# Altium schematic symbol library SYM-IC.SchLib: 136 symbols (part 4 of 7)
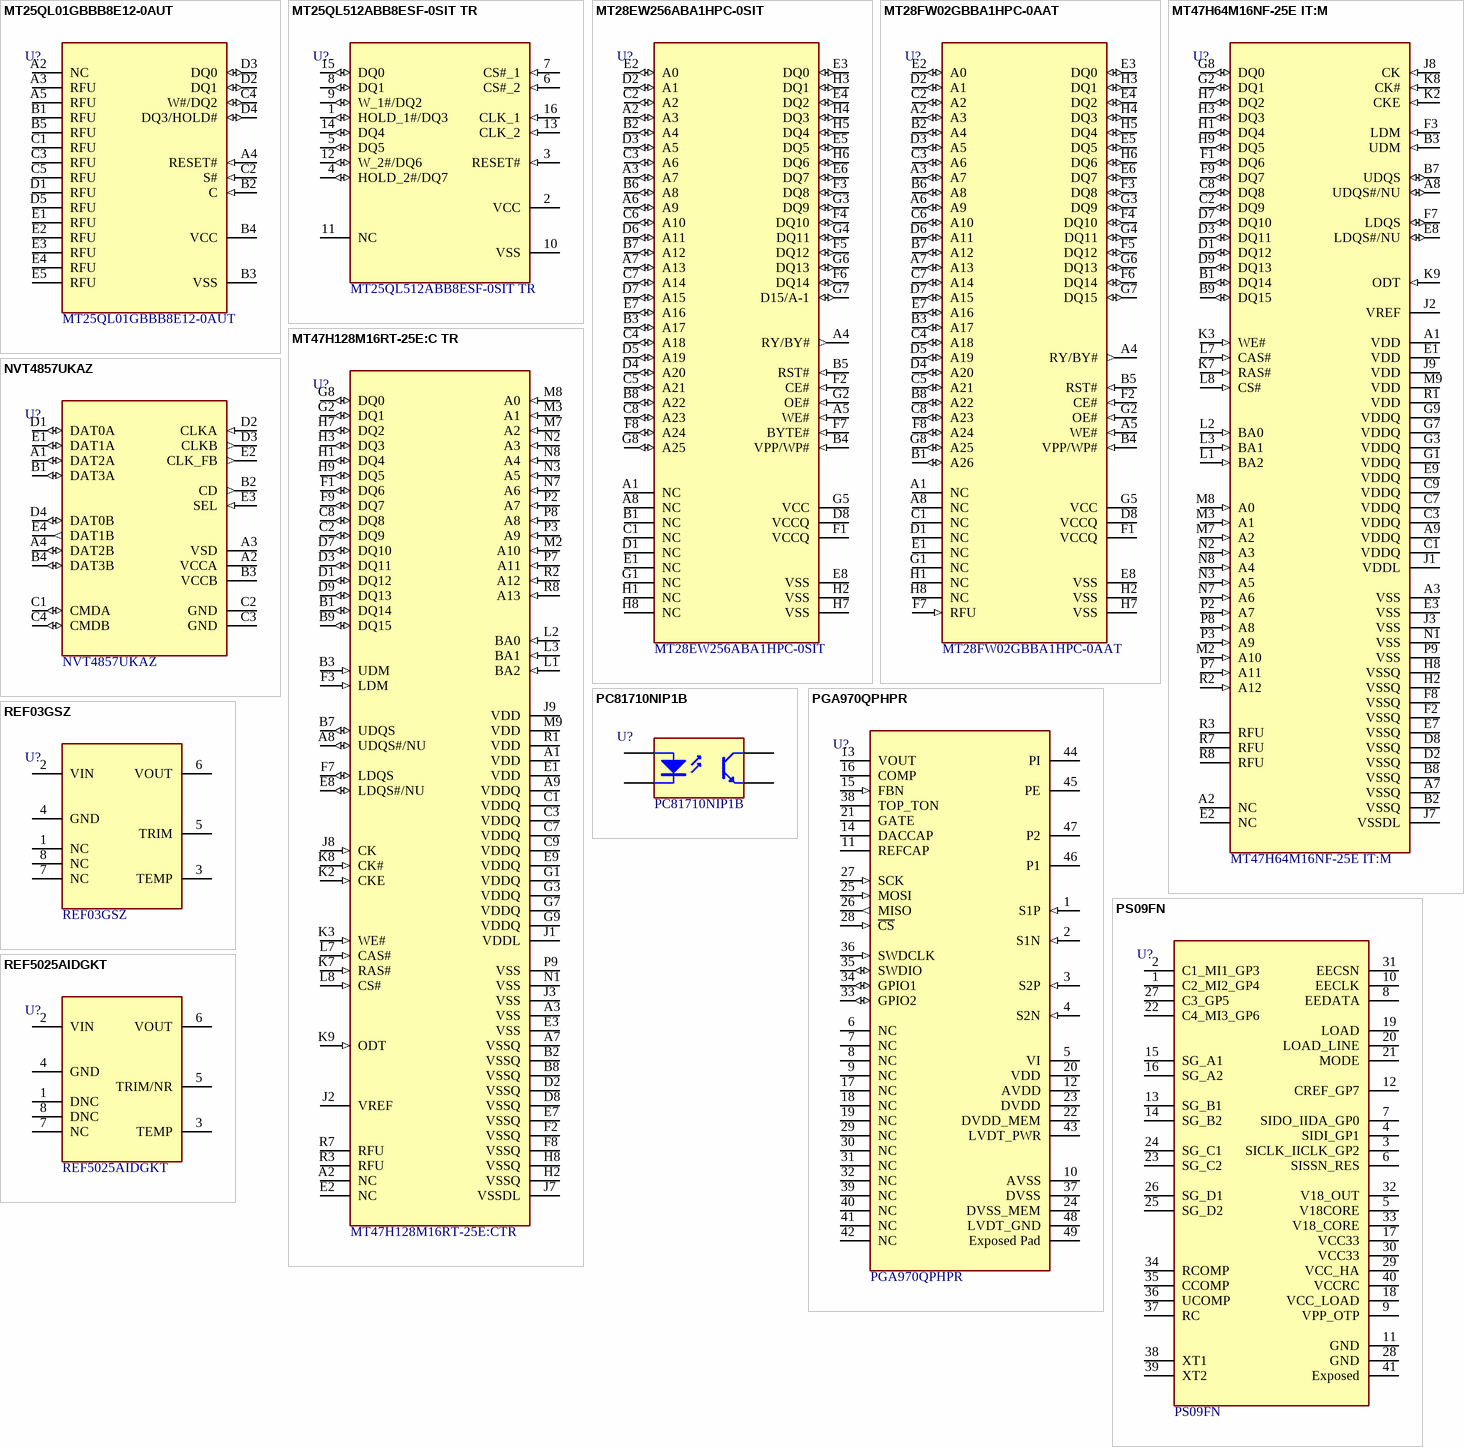
[diagram p20: symbols MT25QL01GBBB8E12-0AUT to REF5025AIDGKT]

## MT28FW02GBBA1HPC-0AAT
designator U?, comment Manufacturer Part Number: MT28FW02GBBA1HPC-0AAT  (hidden comment: IC FLASH 2GBIT PARALLEL 64LBGA)
NOR Flash Parallel 3V/3.3V 2G-bit 128M x 16 110ns Automotive 64-Pin LBGA T/R/Tray; Manufacturer: Micron Technology; Supplier 1: Digi-Key; RoHS: Yes; Category: Flash; RoHS Compliant: Yes; ComponentLink1URL: https://www.micron.com/~/media/documents/products/data-sheet/nor-flash/parallel/mt28ew_mt28fw/mt28fw_2gb_automotive.pdf?src-supplier=Digi-Key; ComponentLink1Description: https://www.micron.com/~/media/documents/products/data-sheet/nor-flash/parallel/mt28ew_mt28fw/mt28fw_2gb_automotive.pdf?src-supplier=Digi-Key; Supplier Part Number 1: 557-2026-ND
footprint BGA64C100P8X8_1100X1300X140 (BGA, 64-Leads, Body 11/00x13/00mmx1/40mm, Pitch 1/00mm)
pins: A1 NC, A2 A3 (io), A3 A7 (io), A4 RY/BY# (out), A5 WE# (in), A6 A9 (io), A7 A13 (io), A8 NC, B1 A26 (io), B2 A4 (io), B3 A17 (io), B4 VPP/WP# (in), B5 RST# (in), B6 A8 (io), B7 A12 (io), B8 A22 (io), C1 NC, C2 A2 (io), C3 A6 (io), C4 A18 (io), C5 A21 (io), C6 A10 (io), C7 A14 (io), C8 A23 (io), D1 NC, D2 A1 (io), D3 A5 (io), D4 A20 (io), D5 A19 (io), D6 A11 (io), D7 A15 (io), D8 VCCQ (power), E1 NC, E2 A0 (io), E3 DQ0 (io), E4 DQ2 (io), E5 DQ5 (io), E6 DQ7 (io), E7 A16 (io), E8 VSS (power), F1 VCCQ (power), F2 CE# (in), F3 DQ8 (io), F4 DQ10 (io), F5 DQ12 (io), F6 DQ14 (io), F7 RFU (in), F8 A24 (io), G1 NC, G2 OE# (in), G3 DQ9 (io), G4 DQ11 (io), G5 VCC (power), G6 DQ13 (io), G7 DQ15 (io), G8 A25 (io), H1 NC, H2 VSS (power), H3 DQ1 (io), H4 DQ3 (io), H5 DQ4 (io), H6 DQ6 (io), H7 VSS (power), H8 NC

## MT47H64M16NF-25E IT:M
designator U?, comment Manufacturer Part Number: MT47H64M16NF-25E IT:M  (hidden comment: IC DRAM 1GBIT PARALLEL 84FBGA)
SDRAM - DDR2 Memory IC 1Gb (64M x 16) Parallel 400 MHz 400 ps 84-FBGA (8x12.5); Supplier 1: Digi-Key; Supplier Part Number 1: MT47H64M16NF-25EIT:M-ND
footprint BGA135C80P9X15_800X1250X120 (BGA, 135-Leads, Body 8/00x12/50mmx1/20mm, Pitch 0/80mm)
pins: A1 VDD (power), A2 NC, A3 VSS (power), A7 VSSQ (power), A8 UDQS#/NU (io), A9 VDDQ (power), B1 DQ14 (io), B2 VSSQ (power), B3 UDM (in), B7 UDQS (io), B8 VSSQ (power), B9 DQ15 (io), C1 VDDQ (power), C2 DQ9 (io), C3 VDDQ (power), C7 VDDQ (power), C8 DQ8 (io), C9 VDDQ (power), D1 DQ12 (io), D2 VSSQ (power), D3 DQ11 (io), D7 DQ10 (io), D8 VSSQ (power), D9 DQ13 (io), E1 VDD (power), E2 NC, E3 VSS (power), E7 VSSQ (power), E8 LDQS#/NU (io), E9 VDDQ (power), F1 DQ6 (io), F2 VSSQ (power), F3 LDM (in), F7 LDQS (io), F8 VSSQ (power), F9 DQ7 (io), G1 VDDQ (power), G2 DQ1 (io), G3 VDDQ (power), G7 VDDQ (power), G8 DQ0 (io), G9 VDDQ (power), H1 DQ4 (io), H2 VSSQ (power), H3 DQ3 (io), H7 DQ2 (io), H8 VSSQ (power), H9 DQ5 (io), J1 VDDL (power), J2 VREF (power), J3 VSS (power), J7 VSSDL (power), J8 CK (in), J9 VDD (power), K2 CKE (in), K3 WE# (in), K7 RAS# (in), K8 CK# (in), K9 ODT (in), L1 BA2 (in), L2 BA0 (in), L3 BA1 (in), L7 CAS# (in), L8 CS# (in), M2 A10 (in), M3 A1 (in), M7 A2 (in), M8 A0 (in), M9 VDD (power), N1 VSS (power), N2 A3 (in), N3 A5 (in), N7 A6 (in), N8 A4 (in), P2 A7 (in), P3 A9 (in), P7 A11 (in), P8 A8 (in), P9 VSS (power), R1 VDD (power), R2 A12 (in), R3 RFU, R7 RFU, R8 RFU

## MT47H128M16RT-25E:C TR
designator U?, comment Manufacturer Part Number: MT47H128M16RT-25E:CTR  (hidden comment: IC DRAM 2GBIT PARALLEL 84FBGA)
U69A 128MX16 DDR2 SDRAM; Manufacturer: Micron Technology; Memory Type: RAM,DDR2 SDRAM; Supplier 1: Digi-Key; RoHS: Yes; Category: RAM; Case/Package: TFBGA; Min Operating Temperature: 0°C; Max Operating Temperature: 85°C; Package Quantity: 1000; Packaging: Tape and Reel; Interface: Parallel; RoHS Compliant: Yes; ComponentLink1URL: https://datasheet.ciiva.com/29613/2gb-ddr2-29613115.pdf?src-supplier=Digi-Key; ComponentLink1Description: https://datasheet.ciiva.com/29613/2gb-ddr2-29613115.pdf?src-supplier=Digi-Key; Supplier Part Number 1: 557-1919-1-ND
footprint BGA84C80P9X15_900X1250X120 (BGA, 84-Leads, Body 9/00x12/50mmx1/20mm, Pitch 0/80mm)
pins: A1 VDD (power), A2 NC, A3 VSS (power), A7 VSSQ (power), A8 UDQS#/NU (io), A9 VDDQ (power), B1 DQ14 (io), B2 VSSQ (power), B3 UDM (in), B7 UDQS (io), B8 VSSQ (power), B9 DQ15 (io), C1 VDDQ (power), C2 DQ9 (io), C3 VDDQ (power), C7 VDDQ (power), C8 DQ8 (io), C9 VDDQ (power), D1 DQ12 (io), D2 VSSQ (power), D3 DQ11 (io), D7 DQ10 (io), D8 VSSQ (power), D9 DQ13 (io), E1 VDD (power), E2 NC, E3 VSS (power), E7 VSSQ (power), E8 LDQS#/NU (io), E9 VDDQ (power), F1 DQ6 (io), F2 VSSQ (power), F3 LDM (in), F7 LDQS (io), F8 VSSQ (power), F9 DQ7 (io), G1 VDDQ (power), G2 DQ1 (io), G3 VDDQ (power), G7 VDDQ (power), G8 DQ0 (io), G9 VDDQ (power), H1 DQ4 (io), H2 VSSQ (power), H3 DQ3 (io), H7 DQ2 (io), H8 VSSQ (power), H9 DQ5 (io), J1 VDDL (power), J2 VREF (power), J3 VSS (power), J7 VSSDL (power), J8 CK (in), J9 VDD (power), K2 CKE (in), K3 WE# (in), K7 RAS# (in), K8 CK# (in), K9 ODT (in), L1 BA2 (in), L2 BA0 (in), L3 BA1 (in), L7 CAS# (in), L8 CS# (in), M2 A10 (in), M3 A1 (in), M7 A2 (in), M8 A0 (in), M9 VDD (power), N1 VSS (power), N2 A3 (in), N3 A5 (in), N7 A6 (in), N8 A4 (in), P2 A7 (in), P3 A9 (in), P7 A11 (in), P8 A8 (in), P9 VSS (power), R1 VDD (power), R2 A12 (in), R3 RFU, R7 RFU, R8 A13 (in)

## NVT4857UKAZ
designator U?, comment Manufacturer Part Number: NVT4857UKAZ  (hidden comment: IC INTFACE SPECIALIZED 20WLCSP)
Memory Card Interface 20-WLCSP (2.1x1.7); Supplier 1: Digi-Key; Supplier Part Number 1: 568-15389-1-ND
footprint BGA20C40P4X5_170X210X53 (BGA, 20-Leads, Body 1/70x2/10mmx0/53mm, Pitch 0/40mm)
pins: A1 DAT2A (io), A2 VCCA (power), A3 VSD (power), A4 DAT2B (io), B1 DAT3A (io), B2 CD (out), B3 VCCB (power), B4 DAT3B (io), C1 CMDA (io), C2 GND (power), C3 GND (power), C4 CMDB (io), D1 DAT0A (io), D2 CLKA (in), D3 CLKB (out), D4 DAT0B (io), E1 DAT1A (io), E2 CLK_FB (out), E3 SEL (in), E4 DAT1B (out)

## PC81710NIP1B
designator U?, comment Manufacturer Part Number: PC81710NIP1B  (hidden comment: OPTOISOLATOR 5KV TRANS 4SMD)
Optocoupler 1-CH Open Collector 5000Vrms 4-Pin DIP SMD T/R; Manufacturer: Socle Technology; Supplier 1: Digi-Key; RoHS: No; Category: Optocouplers; Stock 1: 11740; Pricing 1: 1=1/16000, 10=0/75900, 100=0/49710, 1000=0/39241 (USD); Supplier Part Number 1: 1855-1014-1-ND
footprint MSOP254P1000X355-4N (SOP, 4-Leads, Body 4/58x6/50mm, Pitch 2/54mm, IPC Medium Density)
pins: 1 A, 2 K, 3 E, 4 C

## PGA970QPHPR
designator U?, comment Manufacturer Part Number: PGA970QPHPR  (hidden comment: IC SGNL CONDITIONER LVDT 48HTQFP)
Sensor and Detector Interface 30V 12.5mA SPI/OWI Interface 48-Pin HTQFP EP T/R; Manufacturer: Texas Instruments; Interface: SPI; Sampling Rate: 7.8S/s; Supplier 1: Digi-Key; RoHS: Yes; Category: Integrated Circuits (ICs); Stock 1: 383; Pricing 1: 1=21/12000, 10=19/40600, 25=18/60200, 100=16/60050 (USD); Mount: Surface Mount; Number of Pins: 48; Min Operating Temperature: -40°C; Max Operating Temperature: 125°C; Packaging: Cut Tape; Operating Supply Current: 12.5mA; RoHS Compliant: Yes; ComponentLink1URL: http://www.ti.com/lit/ds/symlink/pga970.pdf?src-supplier=Digi-Key; ComponentLink1Description: http://www.ti.com/lit/ds/symlink/pga970.pdf?src-supplier=Digi-Key; ComponentLink2URL: http://www.ti.com/general/docs/suppproductinfo.tsp?distId=10&amp;gotoUrl=http%3A%2F%2Fwww.ti.com%2Flit%2Fgpn%2Fpga970&src-supplier=Digi-Key; ComponentLink2Description: http://www.ti.com/general/docs/suppproductinfo.tsp?distId=10&amp;gotoUrl=http%3A%2F%2Fwww.ti.com%2Flit%2Fgpn%2Fpga970&src-supplier=Digi-Key; ComponentLink3URL: http://www.ti.com/lit/ds/symlink/pga970.pdf?src-supplier=Farnell; ComponentLink3Description: http://www.ti.com/lit/ds/symlink/pga970.pdf?src-supplier=Farnell; Supplier Part Number 1: 296-45349-1-ND
footprint TSQFP50P900X900X120_HS-49N (TSQFP, 48-Leads, Body 7/00x7/00mm, Pitch 0/50mm, Thermal Pad 4/90x4/90mm, IPC Medium Density)
pins: 1 S1P (in), 2 S1N (in), 3 S2P (in), 4 S2N (in), 5 VI (power), 6 NC, 7 NC, 8 NC, 9 NC, 10 AVSS (power), 11 REFCAP (power), 12 AVDD (power), 13 VOUT (power), 14 DACCAP (power), 15 FBN (in), 16 COMP (power), 17 NC, 18 NC, 19 NC, 20 VDD (power), 21 GATE (power), 22 DVDD_MEM (power), 23 DVDD (power), 24 DVSS_MEM (power), 25 MOSI (in), 26 MISO (out), 27 SCK (in), 28 ~{CS} (in), 29 NC, 30 NC, 31 NC, 32 NC, 33 GPIO2 (io), 34 GPIO1 (io), 35 SWDIO (io), 36 SWDCLK (in), 37 DVSS (power), 38 TOP_TON (power), 39 NC, 40 NC, 41 NC, 42 NC, 43 LVDT_PWR (power), 44 PI (power), 45 PE (power), 46 P1 (power), 47 P2 (power), 48 LVDT_GND (power), 49 Exposed Pad (power)

## PS09FN
designator U?, comment Manufacturer Part Number: PS09FN  (hidden comment: IC RESISTIVE STRAIN GAUGE 40QFN)
Manufacturer: ams; Interface: I2C,SPI; Operating Supply Current: 2.5uA; Supplier 1: Digi-Key; RoHS: No; Category: Integrated Circuits (ICs); Mount: Surface Mount; Case/Package: QFN; Min Operating Temperature: -40°C; Max Operating Temperature: 125°C; Touchscreen: Resistive; Packaging: Tape and Reel; ComponentLink1URL: https://ams.com/documents/20143/36005/PS09_DS000320_1-00.zip?src-supplier=Digi-Key; ComponentLink1Description: https://ams.com/documents/20143/36005/PS09_DS000320_1-00.zip?src-supplier=Digi-Key; ComponentLink2URL: http://ams.com/eng/content/download/728824/1861406/381475?src-supplier=Digi-Key; ComponentLink2Description: http://ams.com/eng/content/download/728824/1861406/381475?src-supplier=Digi-Key; Supplier Part Number 1: PS09FNCT-ND
footprint QFN50P600X600X80_HS-41N (QFN, 40-Leads, Body 6/00x6/00mm, Pitch 0/50mm, Thermal Pad 4/42x4/42mm, IPC Medium Density)
pins: 1 C2_MI2_GP4, 2 C1_MI1_GP3, 3 SICLK_IICLK_GP2, 4 SIDI_GP1, 5 V18CORE (power), 6 SISSN_RES, 7 SIDO_IIDA_GP0, 8 EEDATA, 9 VPP_OTP (power), 10 EECLK, 11 GND (power), 12 CREF_GP7, 13 SG_B1, 14 SG_B2, 15 SG_A1, 16 SG_A2, 17 VCC33 (power), 18 VCC_LOAD (power), 19 LOAD, 20 LOAD_LINE, 21 MODE, 22 C4_MI3_GP6, 23 SG_C2, 24 SG_C1, 25 SG_D2, 26 SG_D1, 27 C3_GP5, 28 GND (power), 29 VCC_HA (power), 30 VCC33 (power), 31 EECSN, 32 V18_OUT (power), 33 V18_CORE (power), 34 RCOMP, 35 CCOMP, 36 UCOMP, 37 RC, 38 XT1, 39 XT2, 40 VCCRC (power), 41 Exposed (power)

## REF03GSZ
designator U?, comment Manufacturer Part Number: REF03GSZ  (hidden comment: IC VREF SERIES 0.6% 8SOIC)
Voltage Reference, Precision, Series - Fixed, Ref03 Series, 2.5V, Nsoic-8 Rohs Compliant: Yes; Manufacturer: Analog Devices; Nominal Supply Current: 1mA; Max Input Voltage: 40V; Max Output Current: 10mA; Min Input Voltage: 4.5V; Temperature Coefficient: 50ppm/°C; Operating Supply Current: 1.4mA; Current Rating: 21A; Supplier 1: Digi-Key; RoHS: Yes; Category: Voltage References; Pricing 1: 1=4/38000, 10=3/93600, 25=3/72080, 100=3/22450, 250=3/05916, 500=2/74498, 1000=2/57400 (USD); Case/Package: R; Number of Pins: 8; Min Operating Temperature: -40°C; Max Operating Temperature: 85°C; Output Voltage: 2.5V; Package Quantity: 98; Tolerance: 0.6%; Packaging: Rail/Tube; Min Output Voltage: 2.5V; Output Current: 10mA; Max Supply Current: 1.4mA; Max Output Voltage: 2.5V; Reference Voltage: 2.5V; Reference Type: Series; Output Type: Fixed; Series: -; Supply Current: 1mA; Length: 5mm; Width: 4mm; Height: 1.5mm; Radiation Hardening: No; REACH SVHC: No SVHC; Lead Free: Contains Lead; RoHS Compliant: Yes; ComponentLink1URL: https://datasheet.ciiva.com/8028/751513-8028137.pdf?src-supplier=Element14; ComponentLink1Description: https://datasheet.ciiva.com/8028/751513-8028137.pdf?src-supplier=Element14; ComponentLink2URL: https://datasheet.ciiva.com/3235/ref01-02-03-3235499.pdf?src-supplier=Avnet; ComponentLink2Description: https://datasheet.ciiva.com/3235/ref01-02-03-3235499.pdf?src-supplier=Avnet; ComponentLink3URL: https://datasheet.ciiva.com/15148/getdatasheetpartid-146490-15148827.pdf?src-supplier=Verical; ComponentLink3Description: https://datasheet.ciiva.com/15148/getdatasheetpartid-146490-15148827.pdf?src-supplier=Verical; ComponentLink4URL: https://datasheet.ciiva.com/24017/ref01-02-03-246255-24017599.pdf?src-supplier=Mouser; ComponentLink4Description: https://datasheet.ciiva.com/24017/ref01-02-03-246255-24017599.pdf?src-supplier=Mouser; Supplier Part Number 1: 505-REF03GSZ-ND
footprint SOIC127P600X175-8N (SOIC, 8-Leads, Body 4/89x3/90mm, Pitch 1/27mm, IPC Medium Density)
pins: 1 NC, 2 VIN (power), 3 TEMP, 4 GND (power), 5 TRIM, 6 VOUT (power), 7 NC, 8 NC

## REF5025AIDGKT
designator U?, comment Manufacturer Part Number: REF5025AIDGKT  (hidden comment: IC VREF SERIES 0.1% 8VSSOP)
2.5-V, 3-µVpp/V noise, 3-ppm/°C drift precision series voltage reference 8-VSSOP -40 to 125; Manufacturer: Texas Instruments; Number of Channels: 1; Output Voltage: 2.5V; Max Input Voltage: 18V; Min Input Voltage: 2.7V; Max Output Current: 10mA; Temperature Coefficient: 3ppm/°C; Quiescent Current: 1mA; Operating Supply Current: 800uA; Reference Type: Series,Fixed; Accuracy: 30ppm; Supplier 1: Digi-Key; RoHS: Yes; Category: Voltage References; Pricing 1: 1=4/49000, 10=4/02900, 25=3/80880, 100=3/30100 (USD); Case/Package: VSSOP; Number of Pins: 8; Weight: 0.00067oz; Min Operating Temperature: -40°C; Max Operating Temperature: 125°C; Package Quantity: 1; Tolerance: 0.1%; Packaging: Tape and Reel; Output Current: 10mA; Reference Voltage: 2.5V; Max Output Voltage: 2.5V; Series: -; Length: 3mm; Width: 3mm; Height: 0.97mm; Radiation Hardening: No; REACH SVHC: No SVHC; Lead Free: Lead Free; RoHS Compliant: Yes; ComponentLink1URL: https://datasheet.ciiva.com/2007/ref5020-2007493.pdf?src-supplier=Digi-Key; ComponentLink1Description: https://datasheet.ciiva.com/2007/ref5020-2007493.pdf?src-supplier=Digi-Key; ComponentLink2URL: https://datasheet.ciiva.com/3235/ref5050-3235573.pdf?src-supplier=Avnet; ComponentLink2Description: https://datasheet.ciiva.com/3235/ref5050-3235573.pdf?src-supplier=Avnet; ComponentLink3URL: https://datasheet.ciiva.com/2007/ref5020-2007494.pdf?src-supplier=Digi-Key; ComponentLink3Description: https://datasheet.ciiva.com/2007/ref5020-2007494.pdf?src-supplier=Digi-Key; ComponentLink4URL: https://datasheet.ciiva.com/2007/ref5020-2007495.pdf?src-supplier=Digi-Key; ComponentLink4Description: https://datasheet.ciiva.com/2007/ref5020-2007495.pdf?src-supplier=Digi-Key; ComponentLink5URL: https://datasheet.ciiva.com/26181/ref5050-26181449.pdf?src-supplier=Avnet+Europe; ComponentLink5Description: https://datasheet.ciiva.com/26181/ref5050-26181449.pdf?src-supplier=Avnet+Europe; ComponentLink6URL: https://datasheet.ciiva.com/14197/ref5050-14197373.pdf?src-supplier=Avnet; ComponentLink6Description: https://datasheet.ciiva.com/14197/ref5050-14197373.pdf?src-supplier=Avnet; Supplier Part Number 1: 296-24498-1-ND
footprint TSOP65P490X110-8N (TSOP, 8-Leads, Body 3/00x3/00mm, Pitch 0/65mm, IPC Medium Density)
pins: 1 DNC, 2 VIN (power), 3 TEMP, 4 GND (power), 5 TRIM/NR, 6 VOUT (power), 7 NC, 8 DNC

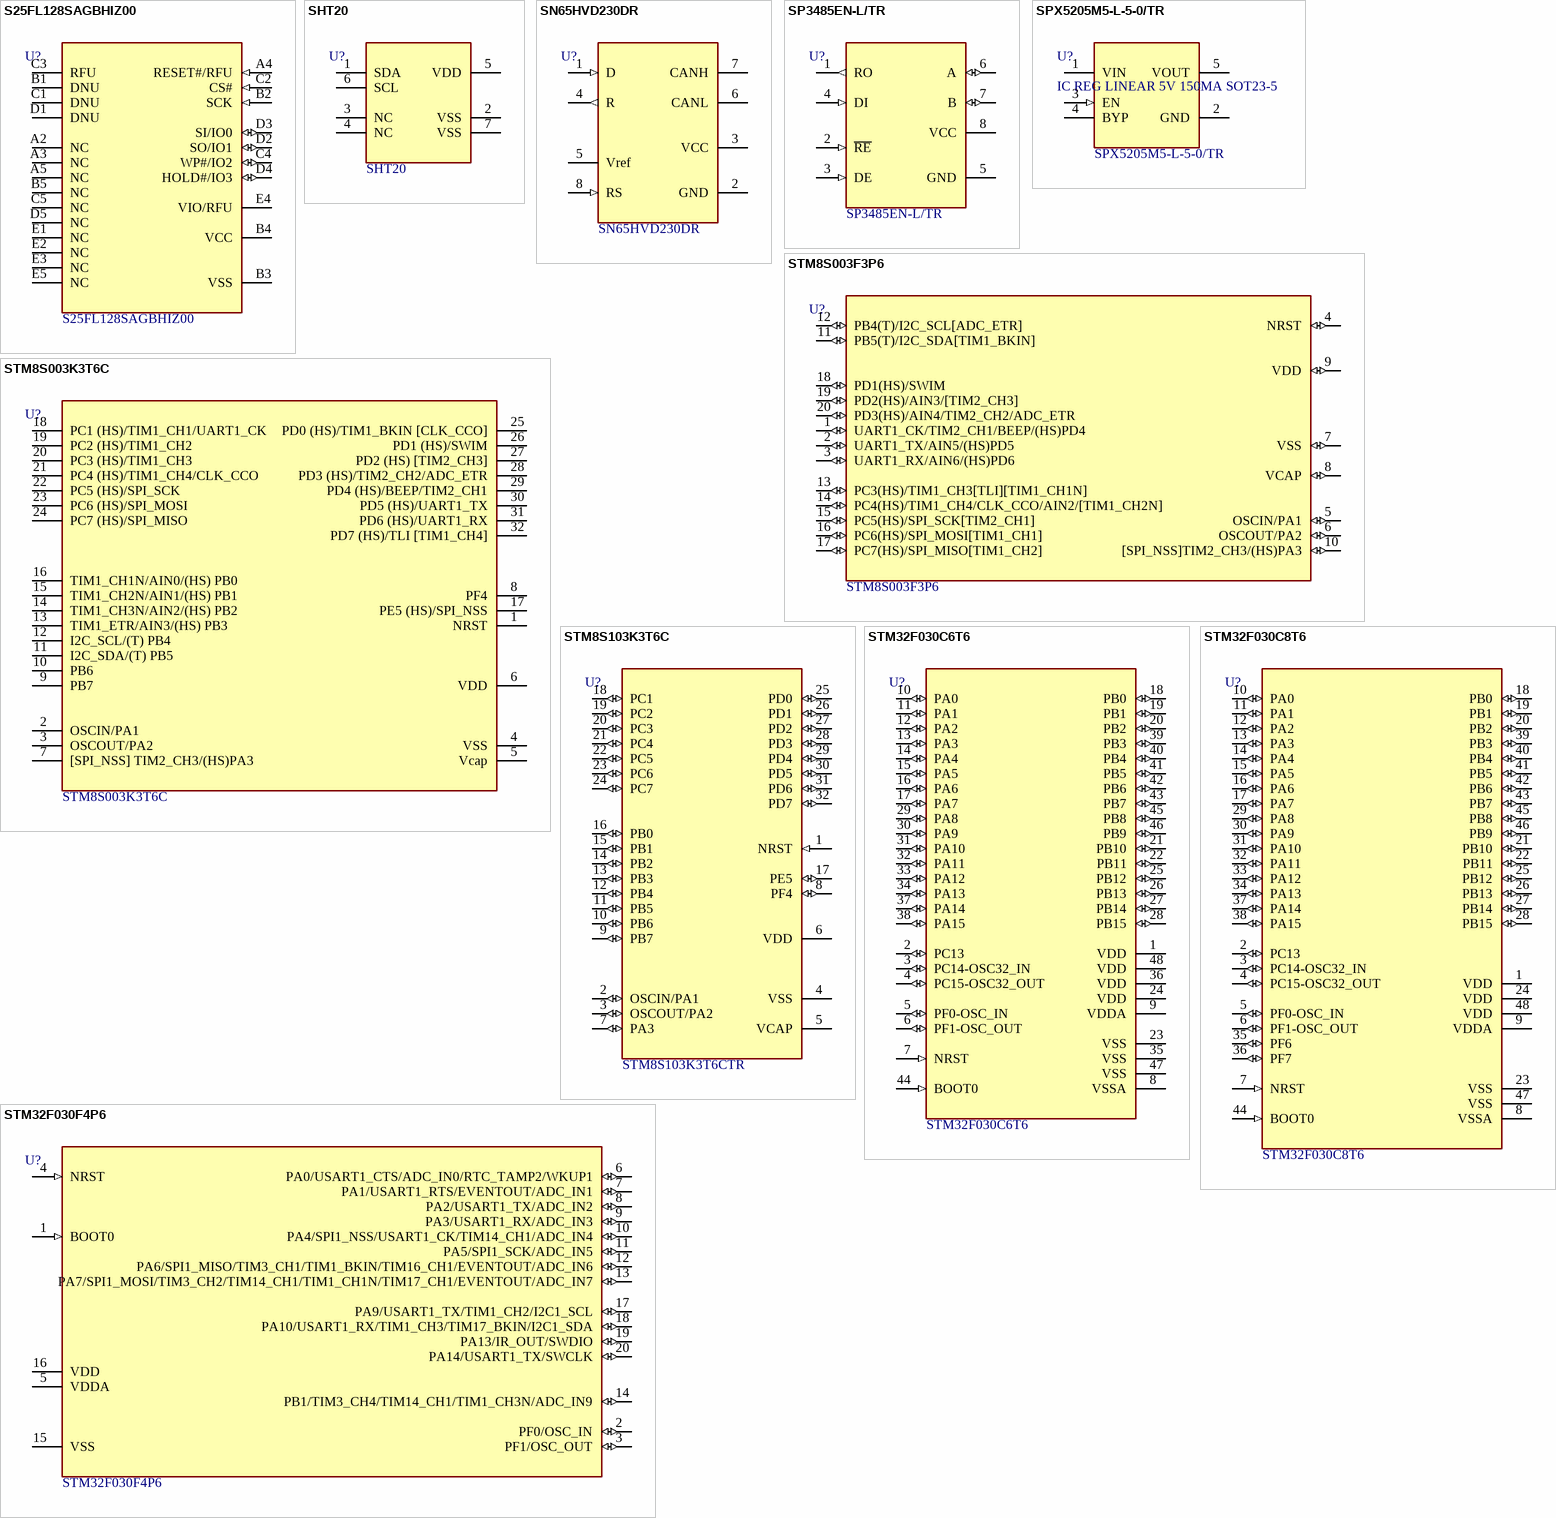
[diagram p4: symbols S25FL128SAGBHIZ00 to STM32F030F4P6]

## S25FL128SAGBHIZ00
designator U?, comment Manufacturer Part Number: S25FL128SAGBHIZ00  (hidden comment: IC FLASH 128MBIT SPI/QUAD 24BGA)
NOR Flash Serial (SPI, Dual SPI, Quad SPI) 3V/3.3V 128M-bit 128M/64M/32M x 1/2-bit/4-bit 8ns 24-Pin BGA Tray; Manufacturer: Cypress; Memory Type: FLASH,NOR; Frequency: 133MHz; Interface: SPI,Serial; Supplier 1: Digi-Key; RoHS: Yes; Category: Memory; Pricing 1: 1=3/99000, 10=3/62400, 25=3/54560, 40=3/52650, 80=3/16188, 230=3/15035, 676=3/03522, 1352=2/88558 (USD); Case/Package: BGA; Number of Pins: 24; Min Operating Temperature: -40°C; Max Operating Temperature: 85°C; Packaging: Tray; ComponentLink1URL: https://www.cypress.com/file/448601/download?src-supplier=Digi-Key; ComponentLink1Description: https://www.cypress.com/file/448601/download?src-supplier=Digi-Key; Supplier Part Number 1: 428-4346-ND
footprint BGA24C100P5X5_800X600X120 (BGA, 24-Leads, Body 8/00x6/00mmx1/20mm, Pitch 1/00mm)
pins: A2 NC, A3 NC, A4 RESET#/RFU (in), A5 NC, B1 DNU, B2 SCK (in), B3 VSS (power), B4 VCC (power), B5 NC, C1 DNU, C2 CS# (in), C3 RFU, C4 WP#/IO2 (io), C5 NC, D1 DNU, D2 SO/IO1 (io), D3 SI/IO0 (io), D4 HOLD#/IO3 (io), D5 NC, E1 NC, E2 NC, E3 NC, E4 VIO/RFU (power), E5 NC

## SHT20
designator U?, comment Manufacturer Part Number: SHT20  (hidden comment: SENSOR HUMID/TEMP 3V I2C 3% SMD)
Humidity/Temperature Sensor Digital Serial (2-Wire, I2C) Automotive 6-Pin DFN EP T/R; Manufacturer: Sensirion; Response Time: 8s; Supplier: Digi-Key; Supplier Part Number: 1649-1004-1-ND; RoHS: Yes; Category: Temperature and Humidity Sensors; Stock: 5274; Pricing: 1=7.17000, 5=6.33000, 10=5.59200, 25=4.53640, 50=4.00900, 100=3.90350, 500=3.27050 (USD); Mounting Technology: Surface Mount; Case/Package: DFN; Min Operating Temperature: -40°C; Max Operating Temperature: 125°C; Accuracy: 3%; Sensor Type: Temperature; Output Type: I2C; Packaging: Tape and Reel; RoHS Compliant: Yes; Lead Free: Lead Free; ComponentLink1URL: https://www.sensirion.com/file/datasheet_sht20?src-supplier=Digi-Key; ComponentLink1Description: https://www.sensirion.com/file/datasheet_sht20?src-supplier=Digi-Key
footprint PSON100P300X110_HS-7N (PSON, 6-Leads, Body 3.00x3.00mm, Pitch 1.00mm, Thermal Pad 2.40x1.50mm, IPC Medium Density)
pins: 1 SDA, 2 VSS, 3 NC, 4 NC, 5 VDD, 6 SCL, 7 VSS

## SN65HVD230DR
designator U?, comment Manufacturer Part Number: SN65HVD230DR  (hidden comment: IC TRANSCEIVER HALF 1/1 8SOIC)
IC 3.3V CAN TXRX W/STNDBY 8-SOIC; Manufacturer: Texas Instruments; Data Rate: 1Mbps; Min Supply Voltage: 3V; Max Supply Voltage: 3.6V; Number of Transmit Buffers: 1; Nominal Supply Current: 17mA; Number of I/Os: 2; Supplier: Digi-Key; Supplier Part Number: 296-11654-1-ND; RoHS: Yes; Category: Interface ICs; Pricing: 1=2.94000, 10=2.64000, 25=2.49120, 100=2.12230, 250=1.99280, 500=1.74370, 1000=1.44478 (USD); Case/Package: D; Pins: 8; Weight: 0.002561oz; Contact Plating: Gold; Min Operating Temperature: -40°C; Max Operating Temperature: 85°C; Packaging: Tape and Reel; Package Quantity: 1; Number of Receive Buffers: 1; Number of Receivers: 1; Operating Supply Voltage: 3.3V; Number of Transceivers: 1; Termination: SMD/SMT; Number of Drivers: 1; Max Supply Current: 17mA; Series: -; Supply Current: 17mA; Radiation Hardening: No; Reach SVHC Compliant: Yes; Lead Free: Lead Free; RoHS Compliant: Yes; ComponentLink1URL: https://datasheet.ciiva.com/27052/1495682-27052294.pdf?src-supplier=Jameco; ComponentLink1Description: https://datasheet.ciiva.com/27052/1495682-27052294.pdf?src-supplier=Jameco; ComponentLink2URL: https://datasheet.ciiva.com/28652/1695240-28652369.pdf?src-supplier=Element14; ComponentLink2Description: https://datasheet.ciiva.com/28652/1695240-28652369.pdf?src-supplier=Element14; ComponentLink3URL: https://datasheet.ciiva.com/4781/sn65hvd230-86923-4781328.pdf?src-supplier=Mouser; ComponentLink3Description: https://datasheet.ciiva.com/4781/sn65hvd230-86923-4781328.pdf?src-supplier=Mouser; ComponentLink4URL: https://datasheet.ciiva.com/3303/slos346k-3303008.pdf?src-supplier=Avnet; ComponentLink4Description: https://datasheet.ciiva.com/3303/slos346k-3303008.pdf?src-supplier=Avnet; ComponentLink5URL: https://datasheet.ciiva.com/1705/sn65hvd230-1705287.pdf?src-supplier=Digi-Key; ComponentLink5Description: https://datasheet.ciiva.com/1705/sn65hvd230-1705287.pdf?src-supplier=Digi-Key; ComponentLink6URL: https://datasheet.ciiva.com/1705/sn65hvd230-1705286.pdf?src-supplier=Digi-Key; ComponentLink6Description: https://datasheet.ciiva.com/1705/sn65hvd230-1705286.pdf?src-supplier=Digi-Key; ComponentLink7URL: https://datasheet.ciiva.com/1705/sn65hvd230-1705288.pdf?src-supplier=Digi-Key; ComponentLink7Description: https://datasheet.ciiva.com/1705/sn65hvd230-1705288.pdf?src-supplier=Digi-Key; ComponentLink8URL: https://datasheet.ciiva.com/22694/1887486-22694362.pdf?src-supplier=Element14; ComponentLink8Description: https://datasheet.ciiva.com/22694/1887486-22694362.pdf?src-supplier=Element14; ComponentLink9URL: https://datasheet.ciiva.com/15150/getdatasheetpartid-393721-15150028.pdf?src-supplier=Verical; ComponentLink9Description: https://datasheet.ciiva.com/15150/getdatasheetpartid-393721-15150028.pdf?src-supplier=Verical
footprint SOIC127P600X175-8N (SOIC, 8-Leads, Body 4/89x3/90mm, Pitch 1/27mm, IPC Medium Density)
pins: 1 D (in), 2 GND (power), 3 VCC (power), 4 R (out), 5 Vref, 6 CANL, 7 CANH, 8 RS (in)

## SP3485EN-L/TR
designator U?, comment Manufacturer Part Number: SP3485EN-L/TR  (hidden comment: IC TRANSCEIVER HALF 1/1 8SOIC)
Single Transmitter/Receiver RS-422/RS-485 8-Pin SOIC N T/R; Manufacturer: MaxLinear; Simplex/Duplex: Half Duplex; Receiver Hysteresis: 20mV; Data Rate: 10Mbps; Supplier 1: Digi-Key; RoHS: Yes; Category: RS-232 / RS-422 / RS-485 Interface ICs; Mount: Surface Mount; Case/Package: SOIC; Number of Pins: 8; Min Operating Temperature: -40°C; Max Operating Temperature: 85°C; Packaging: Cut Tape; RoHS Compliant: Yes; ComponentLink1URL: https://www.exar.com/content/document.ashx?id=639&src-supplier=Digi-Key; ComponentLink1Description: https://www.exar.com/content/document.ashx?id=639&src-supplier=Digi-Key; Supplier Part Number 1: 1016-1817-1-ND
footprint SOIC127P600X175-8N (SOIC, 8-Leads, Body 4/89x3/90mm, Pitch 1/27mm, IPC Medium Density)
pins: 1 RO (out), 2 ~{RE} (in), 3 DE (in), 4 DI (in), 5 GND (power), 6 A (io), 7 B (io), 8 VCC (power)

## SPX5205M5-L-5-0/TR
designator U?, comment IC REG LINEAR 5V 150MA SOT23-5  Manufacturer Part Number: SPX5205M5-L-5-0/TR
IC REG LDO 5V 0.15A SOT23-5; Manufacturer: Exar; Min Input Voltage: 2.5V; Max Input Voltage: 16V; Dropout Voltage: 210mV; Number of Outputs: 1; Quiescent Current: 1uA; Polarity: Positive; Accuracy: 1%; Output Type: Fixed; Supplier 1: Digi-Key; RoHS: Yes; Category: Voltage Regulators - Linear; Mount: Surface Mount; Case/Package: SOT-23; Number of Pins: 5; Min Operating Temperature: -40°C; Max Operating Temperature: 125°C; Output Current: 150mA; Output Voltage: 5V; Packaging: Tape and Reel; Max Output Current: 150mA; Nominal Output Voltage: 5V; Number of Regulators: 1; Min Output Voltage: 5V; Output Voltage Accuracy: 1%; Length: 2.9mm; Width: 1.6mm; Height: 1.15mm; Radiation Hardening: No; RoHS Compliant: Yes; Lead Free: Lead Free; ComponentLink1URL: https://datasheet.ciiva.com/6594/spx5205-j-102014-6594538.pdf?src-supplier=Digi-Key; ComponentLink1Description: https://datasheet.ciiva.com/6594/spx5205-j-102014-6594538.pdf?src-supplier=Digi-Key; ComponentLink2URL: https://datasheet.ciiva.com/6594/spx5205-j-102014-6594537.pdf?src-supplier=Digi-Key; ComponentLink2Description: https://datasheet.ciiva.com/6594/spx5205-j-102014-6594537.pdf?src-supplier=Digi-Key; ComponentLink3URL: https://datasheet.ciiva.com/6594/spx5205-j-102014-6594540.pdf?src-supplier=Digi-Key; ComponentLink3Description: https://datasheet.ciiva.com/6594/spx5205-j-102014-6594540.pdf?src-supplier=Digi-Key; ComponentLink4URL: https://datasheet.ciiva.com/7993/612256-7993581.pdf?src-supplier=Element14; ComponentLink4Description: https://datasheet.ciiva.com/7993/612256-7993581.pdf?src-supplier=Element14; ComponentLink5URL: https://datasheet.ciiva.com/16199/spx5205-series-16199933.pdf?src-supplier=Future+Electronics; ComponentLink5Description: https://datasheet.ciiva.com/16199/spx5205-series-16199933.pdf?src-supplier=Future+Electronics; Supplier Part Number 1: SPX5205M5-L-5-0/TR-ND
footprint SOT95P280X145-5N (SOT23, 5-Leads, Body 2/90x2/80mm, Pitch 0/95mm, IPC Medium Density)
pins: 1 VIN (power), 2 GND (power), 3 EN (in), 4 BYP, 5 VOUT (power)

## STM8S003F3P6
designator U?, comment Manufacturer Part Number: STM8S003F3P6  (hidden comment: IC MCU 8BIT 8KB FLASH 20TSSOP)
Manufacturer: STMicroelectronics; Interface: I2C,SPI,UART; RAM Size: 1KB; Number of Timers/Counters: 3; Max Power Dissipation: 238mW; Data Bus Width: 8b; Max Frequency: 16MHz; Number of Programmable I/O: 16; Watchdog Timer: Yes; Min Supply Voltage: 2.95V; Max Supply Voltage: 5.5V; Oscillator Type: Internal; Peripherals: Brown-out Detect/Reset,POR,PWM,WDT,I2C; Number of ADC Channels: 5; Number of SPI Channels: 1; Supplier 1: Digi-Key; RoHS: Yes; Category: Microcontrollers; Pricing 1: 1=1/03000, 10=0/91700, 25=0/87040, 100=0/71480, 250=0/66824, 500=0/59052, 1000=0/51800 (USD); Mount: Surface Mount; Case/Package: TSSOP; Number of Pins: 20; Weight: 0.007055oz; Min Operating Temperature: -40°C; Max Operating Temperature: 85°C; Memory Type: FLASH; Memory Size: 8KB; Frequency: 16MHz; Packaging: Rail/Tube; Number of I/Os: 16; Series: STM8S003F3; Package Quantity: 1480; Number of I2C Channels: 1; Number of UART Channels: 1; Length: 6.6mm; Width: 4.5mm; Height: 1.05mm; Radiation Hardening: No; Lead Free: Lead Free; RoHS Compliant: Yes; REACH SVHC: No SVHC; ComponentLink1URL: https://datasheet.ciiva.com/16216/dm00024550-16216214.pdf?src-supplier=Future+Electronics; ComponentLink1Description: https://datasheet.ciiva.com/16216/dm00024550-16216214.pdf?src-supplier=Future+Electronics; ComponentLink2URL: https://datasheet.ciiva.com/13036/dm00024550-13036971.pdf?src-supplier=Mouser; ComponentLink2Description: https://datasheet.ciiva.com/13036/dm00024550-13036971.pdf?src-supplier=Mouser; ComponentLink3URL: https://datasheet.ciiva.com/17232/dm00024550-17232894.pdf?src-supplier=Avnet+Europe; ComponentLink3Description: https://datasheet.ciiva.com/17232/dm00024550-17232894.pdf?src-supplier=Avnet+Europe; Supplier Part Number 1: 497-11946-5-ND
footprint TSOP65P640X120-20N (TSOP, 20-Leads, Body 6/50x4/40mm, Pitch 0/65mm, IPC Medium Density)
pins: 1 UART1_CK/TIM2_CH1/BEEP/(HS)PD4 (io), 2 UART1_TX/AIN5/(HS)PD5 (io), 3 UART1_RX/AIN6/(HS)PD6 (io), 4 NRST (io), 5 OSCIN/PA1 (io), 6 OSCOUT/PA2 (io), 7 VSS (io), 8 VCAP (io), 9 VDD (io), 10 [SPI_NSS]TIM2_CH3/(HS)PA3 (io), 11 PB5(T)/I2C_SDA[TIM1_BKIN] (io), 12 PB4(T)/I2C_SCL[ADC_ETR] (io), 13 PC3(HS)/TIM1_CH3[TLI][TIM1_CH1N] (io), 14 PC4(HS)/TIM1_CH4/CLK_CCO/AIN2/[TIM1_CH2N] (io), 15 PC5(HS)/SPI_SCK[TIM2_CH1] (io), 16 PC6(HS)/SPI_MOSI[TIM1_CH1] (io), 17 PC7(HS)/SPI_MISO[TIM1_CH2] (io), 18 PD1(HS)/SWIM (io), 19 PD2(HS)/AIN3/[TIM2_CH3] (io), 20 PD3(HS)/AIN4/TIM2_CH2/ADC_ETR (io)

## STM8S003K3T6C
designator U?, comment Manufacturer Part Number: STM8S003K3T6C  (hidden comment: IC MCU 8BIT 8KB FLASH 32LQFP)
Manufacturer: STMicroelectronics; Interface: I2C,SPI,IrDA,UART,USART,LIN; RAM Size: 1KB; Max Power Dissipation: 330mW; Number of Timers/Counters: 7; Data Bus Width: 8b; Number of Programmable I/O: 28; Max Frequency: 16MHz; Watchdog Timer: Yes; Max Supply Voltage: 5.5V; Min Supply Voltage: 2.95V; Oscillator Type: Internal; Peripherals: Brown-out Detect/Reset,POR,PWM,WDT,I2C; Number of ADC Channels: 5; Number of SPI Channels: 1; Data Rate: 8Mbps; Supplier 1: Digi-Key; RoHS: Yes; Category: Microcontrollers; Pricing 1: 1=1/62000, 10=1/44700, 25=1/37360, 80=1/12825, 250=1/05472, 500=0/93206, 1000=0/81760 (USD); Mount: Surface Mount; Case/Package: LQFP; Number of Pins: 32; Min Operating Temperature: -40°C; Max Operating Temperature: 85°C; Memory Type: FLASH; Memory Size: 8KB; Packaging: Tray; Frequency: 16MHz; Number of I/Os: 28; Package Quantity: 250; Number of I2C Channels: 1; Number of UART Channels: 1; Series: STM8S; Length: 7.2mm; Width: 7.2mm; Height: 1.45mm; Radiation Hardening: No; Lead Free: Lead Free; REACH SVHC: No SVHC; RoHS Compliant: Yes; ComponentLink1URL: https://datasheet.ciiva.com/17377/dm00024550-17377834.pdf?src-supplier=Avnet+Europe; ComponentLink1Description: https://datasheet.ciiva.com/17377/dm00024550-17377834.pdf?src-supplier=Avnet+Europe; ComponentLink2URL: https://datasheet.ciiva.com/16380/dm00024550-16380393.pdf?src-supplier=Future+Electronics; ComponentLink2Description: https://datasheet.ciiva.com/16380/dm00024550-16380393.pdf?src-supplier=Future+Electronics; ComponentLink3URL: https://datasheet.ciiva.com/13041/dm00024550-13041260.pdf?src-supplier=Mouser; ComponentLink3Description: https://datasheet.ciiva.com/13041/dm00024550-13041260.pdf?src-supplier=Mouser; Supplier Part Number 1: 497-11947-ND
footprint TQFP80P900X900X120-32N (TQFP, 32-Leads, Body 7/00x7/00mm, Pitch 0/80mm, IPC Medium Density)
pins: 1 NRST, 2 OSCIN/PA1, 3 OSCOUT/PA2, 4 VSS, 5 Vcap, 6 VDD, 7 [SPI_NSS] TIM2_CH3/(HS)PA3, 8 PF4, 9 PB7, 10 PB6, 11 I2C_SDA/(T) PB5, 12 I2C_SCL/(T) PB4, 13 TIM1_ETR/AIN3/(HS) PB3, 14 TIM1_CH3N/AIN2/(HS) PB2, 15 TIM1_CH2N/AIN1/(HS) PB1, 16 TIM1_CH1N/AIN0/(HS) PB0, 17 PE5 (HS)/SPI_NSS, 18 PC1 (HS)/TIM1_CH1/UART1_CK, 19 PC2 (HS)/TIM1_CH2, 20 PC3 (HS)/TIM1_CH3, 21 PC4 (HS)/TIM1_CH4/CLK_CCO, 22 PC5 (HS)/SPI_SCK, 23 PC6 (HS)/SPI_MOSI, 24 PC7 (HS)/SPI_MISO, 25 PD0 (HS)/TIM1_BKIN [CLK_CCO], 26 PD1 (HS)/SWIM, 27 PD2 (HS) [TIM2_CH3], 28 PD3 (HS)/TIM2_CH2/ADC_ETR, 29 PD4 (HS)/BEEP/TIM2_CH1, 30 PD5 (HS)/UART1_TX, 31 PD6 (HS)/UART1_RX, 32 PD7 (HS)/TLI [TIM1_CH4]

## STM8S103K3T6C
designator U?, comment Manufacturer Part Number: STM8S103K3T6CTR  (hidden comment: IC MCU 8BIT 8KB FLASH 32LQFP)
MCU 8-bit STM8S STM8 CISC 8KB Flash 3.3V/5V 32-Pin LQFP T/R; Manufacturer: STMicroelectronics; Interface: I2C,SPI,IrDA,UART,USART,LIN; RAM Size: 1KB; Max Power Dissipation: 330mW; Number of Timers/Counters: 7; Data Bus Width: 8b; Number of Programmable I/O: 28; Watchdog Timer: Yes; Max Frequency: 16MHz; Max Supply Voltage: 5.5V; Min Supply Voltage: 2.95V; Oscillator Type: Internal; Peripherals: Brown-out Detect/Reset,POR,PWM,WDT,I2C; Supplier 1: Digi-Key; RoHS: Yes; Category: Microcontrollers; Pricing 1: 1=2/02000, 10=1/81700, 25=1/71440, 100=1/46050, 250=1/37136, 500=1/19994, 1000=1/14280 (USD); Mount: Surface Mount; Case/Package: LQFP; Number of Pins: 32; Min Operating Temperature: -40°C; Max Operating Temperature: 85°C; Memory Type: FLASH; Memory Size: 8KB; Frequency: 16MHz; Packaging: Tape and Reel; Number of I/Os: 28; Package Quantity: 2400; Series: STM8S; Radiation Hardening: No; Lead Free: Lead Free; RoHS Compliant: Yes; ComponentLink1URL: https://datasheet.ciiva.com/16491/cd00226640-16491254.pdf?src-supplier=Future+Electronics; ComponentLink1Description: https://datasheet.ciiva.com/16491/cd00226640-16491254.pdf?src-supplier=Future+Electronics; Supplier Part Number 1: 497-18853-1-ND
footprint TQFP80P900X900X120-32N (TQFP, 32-Leads, Body 7/00x7/00mm, Pitch 0/80mm, IPC Medium Density)
pins: 1 NRST (in), 2 OSCIN/PA1 (io), 3 OSCOUT/PA2 (io), 4 VSS (power), 5 VCAP (power), 6 VDD (power), 7 PA3 (io), 8 PF4 (io), 9 PB7 (io), 10 PB6 (io), 11 PB5 (io), 12 PB4 (io), 13 PB3 (io), 14 PB2 (io), 15 PB1 (io), 16 PB0 (io), 17 PE5 (io), 18 PC1 (io), 19 PC2 (io), 20 PC3 (io), 21 PC4 (io), 22 PC5 (io), 23 PC6 (io), 24 PC7 (io), 25 PD0 (io), 26 PD1 (io), 27 PD2 (io), 28 PD3 (io), 29 PD4 (io), 30 PD5 (io), 31 PD6 (io), 32 PD7 (io)

## STM32F030C6T6
designator U?, comment Manufacturer Part Number: STM32F030C6T6  (hidden comment: IC MCU 32BIT 32KB FLASH 48LQFP)
ARM® Cortex®-M0 STM32 F0 Microcontroller IC 32-Bit 48MHz 32KB (32K x 8) FLASH 48-LQFP (7x7); Manufacturer: STMicroelectronics; Interface: I2C,SPI,UART,USART; Core Architecture: ARM; Data Bus Width: 32b; Number of I/Os: 39; Number of Timers/Counters: 5; Max Supply Voltage: 3.6V; RAM Size: 4KB; Max Power Dissipation: 364mW; Min Supply Voltage: 2.4V; Number of ADC Channels: 16; Oscillator Type: Internal; Number of SPI Channels: 1; Number of PWM Channels: 6; Watchdog Timer: Yes; Peripherals: POR,PWM,WDT,DMA; Supplier 1: Digi-Key; RoHS: Yes; Category: Microcontrollers; Pricing 1: 1=2/69000, 10=2/41400, 25=2/27760, 80=1/94050, 250=1/82208, 500=1/59432, 1000=1/51840 (USD); Case/Package: LQFP; Number of Pins: 48; Contact Plating: Tin,Matte; Min Operating Temperature: -40°C; Max Operating Temperature: 85°C; Package Quantity: 250; Packaging: Tray; Memory Type: FLASH; Frequency: 48MHz; Number of Programmable I/O: 39; Max Frequency: 48MHz; Number of I2C Channels: 1; Memory Size: 32KB; Length: 7.2mm; Width: 7.2mm; Height: 1.45mm; Radiation Hardening: No; REACH SVHC: No SVHC; Lead Free: Lead Free; RoHS Compliant: Yes; ComponentLink1URL: https://datasheet.ciiva.com/29720/dm00088500-29720640.pdf?src-supplier=Avnet; ComponentLink1Description: https://datasheet.ciiva.com/29720/dm00088500-29720640.pdf?src-supplier=Avnet; ComponentLink2URL: https://datasheet.ciiva.com/28647/1883133-28647788.pdf?src-supplier=Element14; ComponentLink2Description: https://datasheet.ciiva.com/28647/1883133-28647788.pdf?src-supplier=Element14; Supplier Part Number 1: 497-14042-ND
footprint TSQFP50P900X900X160-48N (TSQFP, 48-Leads, Body 7/00x7/00mm, Pitch 0/50mm, IPC Medium Density)
pins: 1 VDD (power), 2 PC13 (io), 3 PC14-OSC32_IN (io), 4 PC15-OSC32_OUT (io), 5 PF0-OSC_IN (io), 6 PF1-OSC_OUT (io), 7 NRST (in), 8 VSSA (power), 9 VDDA (power), 10 PA0 (io), 11 PA1 (io), 12 PA2 (io), 13 PA3 (io), 14 PA4 (io), 15 PA5 (io), 16 PA6 (io), 17 PA7 (io), 18 PB0 (io), 19 PB1 (io), 20 PB2 (io), 21 PB10 (io), 22 PB11 (io), 23 VSS (power), 24 VDD (power), 25 PB12 (io), 26 PB13 (io), 27 PB14 (io), 28 PB15 (io), 29 PA8 (io), 30 PA9 (io), 31 PA10 (io), 32 PA11 (io), 33 PA12 (io), 34 PA13 (io), 35 VSS (power), 36 VDD (power), 37 PA14 (io), 38 PA15 (io), 39 PB3 (io), 40 PB4 (io), 41 PB5 (io), 42 PB6 (io), 43 PB7 (io), 44 BOOT0 (in), 45 PB8 (io), 46 PB9 (io), 47 VSS (power), 48 VDD (power)

## STM32F030C8T6
designator U?, comment Manufacturer Part Number: STM32F030C8T6  (hidden comment: IC MCU 32BIT 64KB FLASH 48LQFP)
ARM® Cortex®-M0 STM32 F0 Microcontroller IC 32-Bit 48MHz 64KB (64K x 8) FLASH; Manufacturer: STMicroelectronics; Interface: I2C,SPI,UART,USART; Core Architecture: ARM; Data Bus Width: 32b; Max Supply Voltage: 3.6V; Number of I/Os: 39; RAM Size: 8KB; Max Power Dissipation: 364mW; Number of Timers/Counters: 7; Min Supply Voltage: 2.4V; Oscillator Type: Internal; Number of ADC Channels: 12; Number of SPI Channels: 2; Number of PWM Channels: 6; Watchdog Timer: Yes; Peripherals: POR,PWM,WDT,DMA; Supplier 1: Digi-Key; RoHS: Yes; Category: Microcontrollers; Pricing 1: 1=3/25000, 10=2/92300, 25=2/75720, 80=2/34925, 250=2/20584, 500=1/93012, 1000=1/83820 (USD); Case/Package: LQFP; Number of Pins: 48; Contact Plating: Tin,Matte; Min Operating Temperature: -40°C; Max Operating Temperature: 85°C; Package Quantity: 250; Packaging: Tray; Memory Type: FLASH; Frequency: 48MHz; Number of Programmable I/O: 39; Max Frequency: 48MHz; Number of I2C Channels: 2; Memory Size: 64KB; Length: 7.2mm; Width: 7.2mm; Height: 1.45mm; Radiation Hardening: No; REACH SVHC: No SVHC; Lead Free: Lead Free; RoHS Compliant: Yes; ComponentLink1URL: https://datasheet.ciiva.com/28647/1792126-28647793.pdf?src-supplier=Element14; ComponentLink1Description: https://datasheet.ciiva.com/28647/1792126-28647793.pdf?src-supplier=Element14; ComponentLink2URL: https://datasheet.ciiva.com/29721/dm00088500-29721644.pdf?src-supplier=Digi-Key; ComponentLink2Description: https://datasheet.ciiva.com/29721/dm00088500-29721644.pdf?src-supplier=Digi-Key; ComponentLink3URL: https://datasheet.ciiva.com/29987/dm00088500-29987014.pdf?src-supplier=Avnet; ComponentLink3Description: https://datasheet.ciiva.com/29987/dm00088500-29987014.pdf?src-supplier=Avnet; Supplier Part Number 1: 497-14043-ND
footprint TSQFP50P900X900X160-48N (TSQFP, 48-Leads, Body 7/00x7/00mm, Pitch 0/50mm, IPC Medium Density)
pins: 1 VDD (power), 2 PC13 (io), 3 PC14-OSC32_IN (io), 4 PC15-OSC32_OUT (io), 5 PF0-OSC_IN (io), 6 PF1-OSC_OUT (io), 7 NRST (in), 8 VSSA (power), 9 VDDA (power), 10 PA0 (io), 11 PA1 (io), 12 PA2 (io), 13 PA3 (io), 14 PA4 (io), 15 PA5 (io), 16 PA6 (io), 17 PA7 (io), 18 PB0 (io), 19 PB1 (io), 20 PB2 (io), 21 PB10 (io), 22 PB11 (io), 23 VSS (power), 24 VDD (power), 25 PB12 (io), 26 PB13 (io), 27 PB14 (io), 28 PB15 (io), 29 PA8 (io), 30 PA9 (io), 31 PA10 (io), 32 PA11 (io), 33 PA12 (io), 34 PA13 (io), 35 PF6 (io), 36 PF7 (io), 37 PA14 (io), 38 PA15 (io), 39 PB3 (io), 40 PB4 (io), 41 PB5 (io), 42 PB6 (io), 43 PB7 (io), 44 BOOT0 (in), 45 PB8 (io), 46 PB9 (io), 47 VSS (power), 48 VDD (power)

## STM32F030F4P6
designator U?, comment Manufacturer Part Number: STM32F030F4P6  (hidden comment: IC MCU 32BIT 16KB FLASH 20TSSOP)
Mainstream ARM Cortex-M0 Value line MCU with 16 Kbytes Flash, 48 MHz CPU; Manufacturer: STMicroelectronics; Interface: I2C,SPI,UART,USART; Data Bus Width: 32b; Max Supply Voltage: 3.6V; Frequency: 48MHz; RAM Size: 4KB; Max Power Dissipation: 182mW; Number of I/Os: 15; Number of Timers/Counters: 5; Min Supply Voltage: 2.4V; Number of ADC Channels: 16; Oscillator Type: Internal; Number of SPI Channels: 1; Number of PWM Channels: 6; Watchdog Timer: Yes; Peripherals: POR,PWM,WDT,DMA; Supplier 1: Digi-Key; RoHS: Yes; Category: Microcontrollers; Pricing 1: 1=1/85000, 10=1/65300, 25=1/56920, 100=1/28890, 250=1/20488, 500=1/06476, 1000=0/93400 (USD); Case/Package: TSSOP; Number of Pins: 20; Contact Plating: Gold; Min Operating Temperature: -40°C; Max Operating Temperature: 85°C; Package Quantity: 74; Packaging: Rail/Tube; Core Architecture: ARM; Memory Type: FLASH; Number of Programmable I/O: 15; Max Frequency: 48MHz; Number of I2C Channels: 1; Memory Size: 16KB; Length: 6.6mm; Width: 4.5mm; Height: 1.05mm; Radiation Hardening: No; REACH SVHC: No SVHC; Lead Free: Lead Free; RoHS Compliant: Yes; ComponentLink1URL: https://datasheet.ciiva.com/29720/dm00088500-29720640.pdf?src-supplier=Digi-Key; ComponentLink1Description: https://datasheet.ciiva.com/29720/dm00088500-29720640.pdf?src-supplier=Digi-Key; ComponentLink2URL: https://datasheet.ciiva.com/29987/dm00088500-29987015.pdf?src-supplier=Avnet; ComponentLink2Description: https://datasheet.ciiva.com/29987/dm00088500-29987015.pdf?src-supplier=Avnet; ComponentLink3URL: https://datasheet.ciiva.com/24153/dm00088500-24153277.pdf?src-supplier=Future+Electronics; ComponentLink3Description: https://datasheet.ciiva.com/24153/dm00088500-24153277.pdf?src-supplier=Future+Electronics; ComponentLink4URL: https://datasheet.ciiva.com/24011/dm00088500-490353-24011901.pdf?src-supplier=Mouser; ComponentLink4Description: https://datasheet.ciiva.com/24011/dm00088500-490353-24011901.pdf?src-supplier=Mouser; Supplier Part Number 1: 497-14044-5-ND
footprint TSOP65P640X120-20N (TSOP, 20-Leads, Body 6/50x4/40mm, Pitch 0/65mm, IPC Medium Density)
pins: 1 BOOT0 (in), 2 PF0/OSC_IN (io), 3 PF1/OSC_OUT (io), 4 NRST (in), 5 VDDA (power), 6 PA0/USART1_CTS/ADC_IN0/RTC_TAMP2/WKUP1 (io), 7 PA1/USART1_RTS/EVENTOUT/ADC_IN1 (io), 8 PA2/USART1_TX/ADC_IN2 (io), 9 PA3/USART1_RX/ADC_IN3 (io), 10 PA4/SPI1_NSS/USART1_CK/TIM14_CH1/ADC_IN4 (io), 11 PA5/SPI1_SCK/ADC_IN5 (io), 12 PA6/SPI1_MISO/TIM3_CH1/TIM1_BKIN/TIM16_CH1/EVENTOUT/ADC_IN6 (io), 13 PA7/SPI1_MOSI/TIM3_CH2/TIM14_CH1/TIM1_CH1N/TIM17_CH1/EVENTOUT/ADC_IN7 (io), 14 PB1/TIM3_CH4/TIM14_CH1/TIM1_CH3N/ADC_IN9 (io), 15 VSS (power), 16 VDD (power), 17 PA9/USART1_TX/TIM1_CH2/I2C1_SCL (io), 18 PA10/USART1_RX/TIM1_CH3/TIM17_BKIN/I2C1_SDA (io), 19 PA13/IR_OUT/SWDIO (io), 20 PA14/USART1_TX/SWCLK (io)

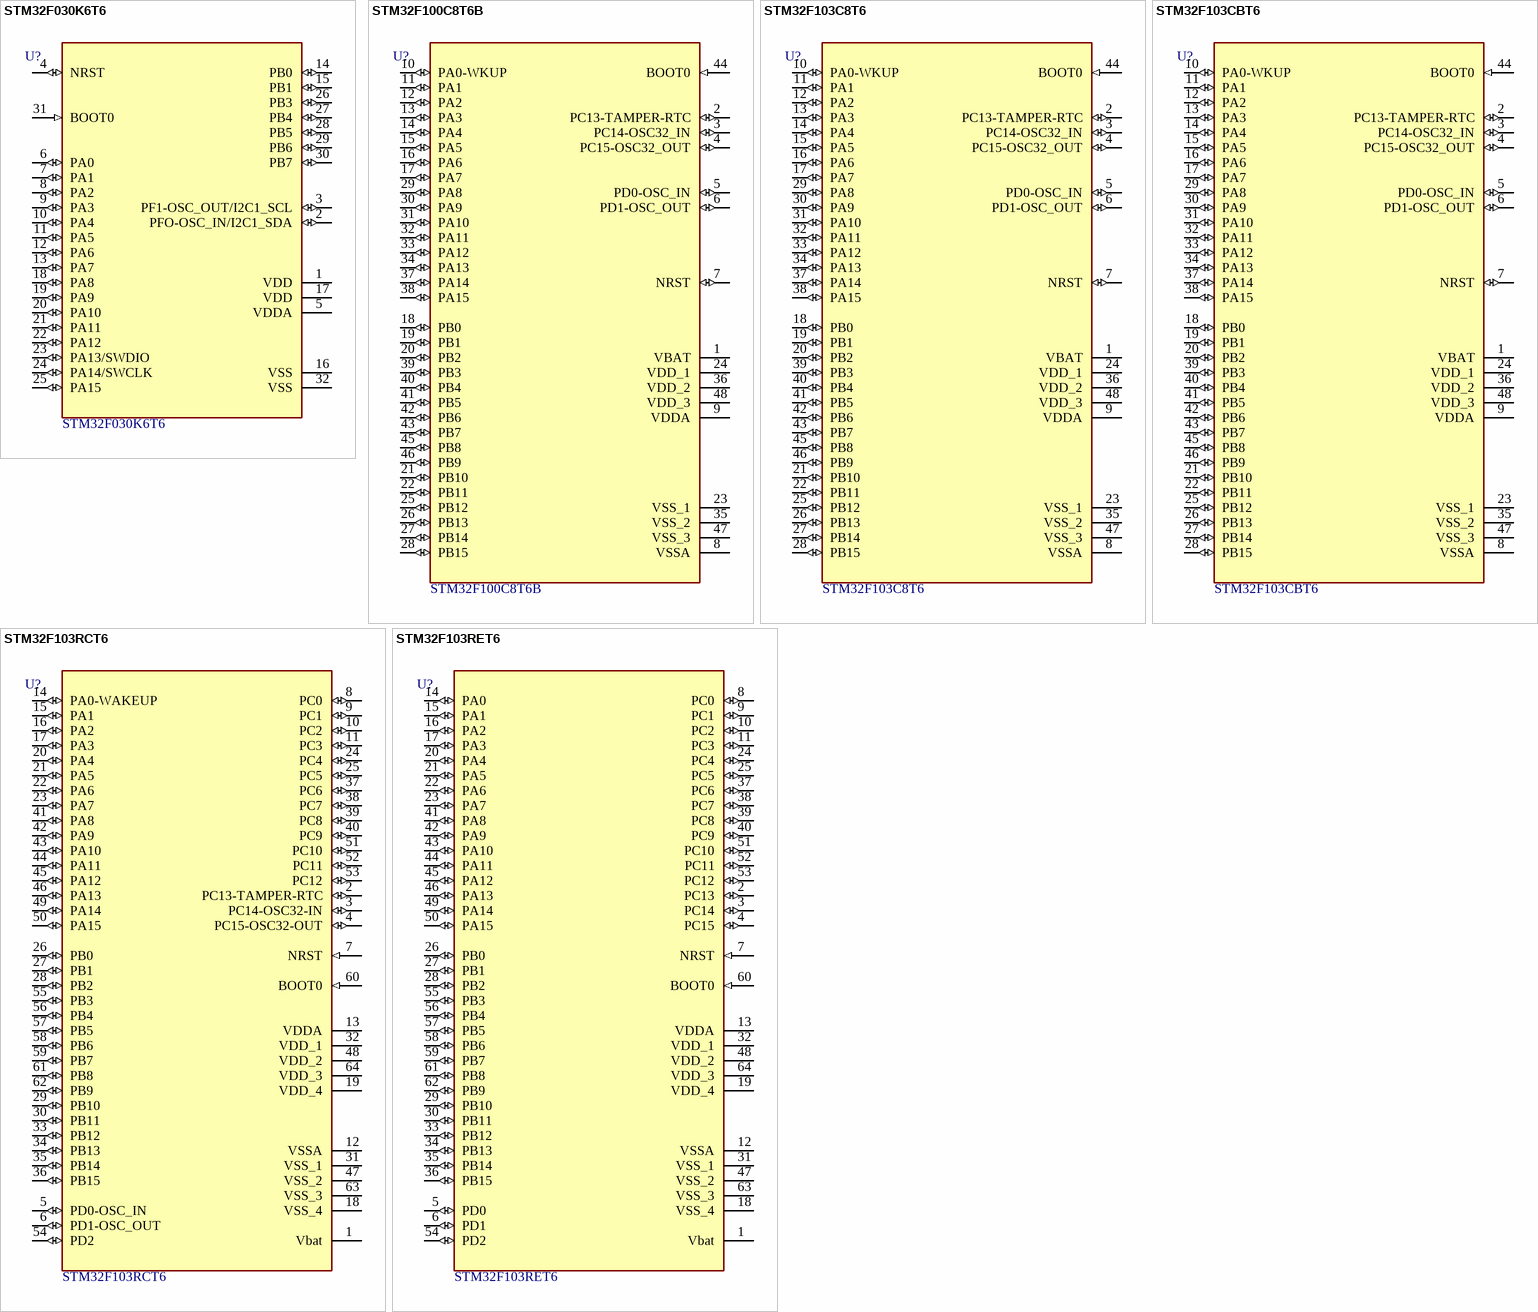
[diagram p5: symbols STM32F030K6T6 to STM32F103RET6]

## STM32F030K6T6
designator U?, comment Manufacturer Part Number: STM32F030K6T6  (hidden comment: IC MCU 32BIT 32KB FLASH 32LQFP)
MCU 32-Bit STM32F ARM Cortex M0 RISC 32KB Flash 2.5V/3.3V 32-Pin LQFP Tray; Manufacturer: STMicroelectronics; Interface: I2C,SPI,UART,USART; Operating Supply Voltage: 3.3V; Data Bus Width: 32b; Frequency: 48MHz; RAM Size: 4KB; Max Supply Voltage: 3.6V; Max Power Dissipation: 357mW; Number of I/Os: 26; Number of Timers/Counters: 5; Min Supply Voltage: 2.4V; Oscillator Type: Internal; Number of ADC Channels: 12; Number of SPI Channels: 1; Watchdog Timer: Yes; Peripherals: POR,PWM,WDT,DMA; Supplier 1: Digi-Key; RoHS: Yes; Category: Microcontrollers; Pricing 1: 1=2/02000, 10=1/81500, 25=1/71200, 80=1/45875, 250=1/36968, 500=1/19848, 1000=1/14140 (USD); Case/Package: LQFP; Number of Pins: 32; Weight: 0.027302oz; Contact Plating: Tin; Min Operating Temperature: -40°C; Max Operating Temperature: 85°C; Package Quantity: 250; Packaging: Tray; Core Architecture: ARM; Memory Type: FLASH; Max Frequency: 48MHz; Number of I2C Channels: 1; Number of Programmable I/O: 26; Memory Size: 32KB; Length: 7.2mm; Width: 7.2mm; Height: 1.45mm; Radiation Hardening: No; REACH SVHC: No SVHC; Lead Free: Lead Free; RoHS Compliant: Yes; ComponentLink1URL: https://datasheet.ciiva.com/29987/dm00088500-29987017.pdf?src-supplier=Avnet; ComponentLink1Description: https://datasheet.ciiva.com/29987/dm00088500-29987017.pdf?src-supplier=Avnet; ComponentLink2URL: https://datasheet.ciiva.com/46427/1792126-46427291.pdf?src-supplier=Element14; ComponentLink2Description: https://datasheet.ciiva.com/46427/1792126-46427291.pdf?src-supplier=Element14; Supplier Part Number 1: 497-14046-ND
footprint TQFP80P900X900X120-32N (TQFP, 32-Leads, Body 7/00x7/00mm, Pitch 0/80mm, IPC Medium Density)
pins: 1 VDD (power), 2 PFO-OSC_IN/I2C1_SDA (io), 3 PF1-OSC_OUT/I2C1_SCL (io), 4 NRST (io), 5 VDDA (power), 6 PA0 (io), 7 PA1 (io), 8 PA2 (io), 9 PA3 (io), 10 PA4 (io), 11 PA5 (io), 12 PA6 (io), 13 PA7 (io), 14 PB0 (io), 15 PB1 (io), 16 VSS (power), 17 VDD (power), 18 PA8 (io), 19 PA9 (io), 20 PA10 (io), 21 PA11 (io), 22 PA12 (io), 23 PA13/SWDIO (io), 24 PA14/SWCLK (io), 25 PA15 (io), 26 PB3 (io), 27 PB4 (io), 28 PB5 (io), 29 PB6 (io), 30 PB7 (io), 31 BOOT0 (in), 32 VSS (power)

## STM32F100C8T6B
designator U?, comment Manufacturer Part Number: STM32F100C8T6B  (hidden comment: IC MCU 32BIT 64KB FLASH 48LQFP)
Manufacturer: STMicroelectronics; RAM Size: 8KB; Max Power Dissipation: 363mW; Interface: I2C,SPI,IrDA,UART,USART,LIN; Number of I/Os: 37; Number of Timers/Counters: 6; Max Supply Voltage: 3.6V; Frequency: 24MHz; Number of ADC Channels: 10; Min Supply Voltage: 2V; Oscillator Type: Internal; Data Bus Width: 32b; Number of SPI Channels: 2; Watchdog Timer: Yes; Peripherals: POR,PWM,WDT,DMA,Temp Sensor,I2C; Core Architecture: ARM; Supplier 1: Digi-Key; RoHS: Yes; Category: Microcontrollers; Pricing 1: 1=5/00000, 10=4/49000, 25=4/24480, 80=3/67875, 250=3/49008, 500=3/14420 (USD); Case/Package: LQFP; Number of Pins: 48; Contact Plating: Gold; Min Operating Temperature: -40°C; Max Operating Temperature: 85°C; Package Quantity: 250; Number of PWM Channels: 6; Packaging: Tray; Number of Programmable I/O: 37; Max Frequency: 24MHz; Number of I2C Channels: 2; Memory Type: FLASH; Memory Size: 64KB; Series: STM32 F1; Length: 7.2mm; Width: 7.2mm; Height: 1.45mm; Radiation Hardening: No; REACH SVHC: No SVHC; Lead Free: Lead Free; RoHS Compliant: Yes; ComponentLink1URL: https://datasheet.ciiva.com/8054/1690143-8054880.pdf?src-supplier=Element14; ComponentLink1Description: https://datasheet.ciiva.com/8054/1690143-8054880.pdf?src-supplier=Element14; ComponentLink2URL: https://datasheet.ciiva.com/6640/cd00251732-6640789.pdf?src-supplier=Digi-Key; ComponentLink2Description: https://datasheet.ciiva.com/6640/cd00251732-6640789.pdf?src-supplier=Digi-Key; ComponentLink3URL: https://datasheet.ciiva.com/8055/1690143-8055125.pdf?src-supplier=Element14; ComponentLink3Description: https://datasheet.ciiva.com/8055/1690143-8055125.pdf?src-supplier=Element14; ComponentLink4URL: https://datasheet.ciiva.com/16540/cd00251732-16540799.pdf?src-supplier=Avnet+Asia; ComponentLink4Description: https://datasheet.ciiva.com/16540/cd00251732-16540799.pdf?src-supplier=Avnet+Asia; ComponentLink5URL: https://datasheet.ciiva.com/48688/001075479-da-01-en-mcu-32bt-64k-stm32f100c8t6b-lqfp-48-stm-48688170.pdf?src-supplier=Conrad; ComponentLink5Description: https://datasheet.ciiva.com/48688/001075479-da-01-en-mcu-32bt-64k-stm32f100c8t6b-lqfp-48-stm-48688170.pdf?src-supplier=Conrad; Supplier Part Number 1: 497-10499-ND
footprint TSQFP50P900X900X160-48N (TSQFP, 48-Leads, Body 7/00x7/00mm, Pitch 0/50mm, IPC Medium Density)
pins: 1 VBAT (power), 2 PC13-TAMPER-RTC (io), 3 PC14-OSC32_IN (io), 4 PC15-OSC32_OUT (io), 5 PD0-OSC_IN (io), 6 PD1-OSC_OUT (io), 7 NRST (io), 8 VSSA (power), 9 VDDA (power), 10 PA0-WKUP (io), 11 PA1 (io), 12 PA2 (io), 13 PA3 (io), 14 PA4 (io), 15 PA5 (io), 16 PA6 (io), 17 PA7 (io), 18 PB0 (io), 19 PB1 (io), 20 PB2 (io), 21 PB10 (io), 22 PB11 (io), 23 VSS_1 (power), 24 VDD_1 (power), 25 PB12 (io), 26 PB13 (io), 27 PB14 (io), 28 PB15 (io), 29 PA8 (io), 30 PA9 (io), 31 PA10 (io), 32 PA11 (io), 33 PA12 (io), 34 PA13 (io), 35 VSS_2 (power), 36 VDD_2 (power), 37 PA14 (io), 38 PA15 (io), 39 PB3 (io), 40 PB4 (io), 41 PB5 (io), 42 PB6 (io), 43 PB7 (io), 44 BOOT0 (in), 45 PB8 (io), 46 PB9 (io), 47 VSS_3 (power), 48 VDD_3 (power)

## STM32F103C8T6
designator U?, comment Manufacturer Part Number: STM32F103C8T6  (hidden comment: IC MCU 32BIT 64KB FLASH 48LQFP)
Manufacturer: STMicroelectronics; RAM Size: 20KB; Frequency: 72MHz; Number of Bits: 32; Max Power Dissipation: 363mW; Interface: I2C,SPI,USB,CAN,IrDA,UART,USART,LIN; Number of I/Os: 37; Number of Timers/Counters: 4; Max Supply Voltage: 3.6V; Number of PWM Channels: 1; Number of ADC Channels: 10; Min Supply Voltage: 2V; Oscillator Type: Internal; Number of Programmable I/O: 48; Data Bus Width: 32b; Number of SPI Channels: 2; Watchdog Timer: Yes; Peripherals: POR,PWM,WDT,DMA,Temp Sensor,I2C; Core Architecture: ARM; Supplier 1: Digi-Key; RoHS: Yes; Category: Microcontrollers; Pricing 1: 1=7/00000, 10=6/28800, 25=5/94440, 80=5/15175, 250=4/88756, 500=4/40320 (USD); Case/Package: LQFP; Number of Pins: 48; Min Operating Temperature: -40°C; Max Operating Temperature: 85°C; Density: 64KB; Packaging: Tray; Package Quantity: 250; Memory Type: FLASH; Termination: SMD/SMT; Max Frequency: 72MHz; Number of I2C Channels: 2; Address Bus Width: 32b; Memory Size: 64KB; Length: 7mm; Width: 7.2mm; Height: 1.45mm; Radiation Hardening: No; REACH SVHC: No SVHC; Lead Free: Lead Free; ComponentLink1URL: https://datasheet.ciiva.com/15122/getdatasheetpartid-69880-15122076.pdf?src-supplier=Verical; ComponentLink1Description: https://datasheet.ciiva.com/15122/getdatasheetpartid-69880-15122076.pdf?src-supplier=Verical; ComponentLink2URL: https://datasheet.ciiva.com/26816/stm32f103c8t6-26816902.pdf?src-supplier=IIIC; ComponentLink2Description: https://datasheet.ciiva.com/26816/stm32f103c8t6-26816902.pdf?src-supplier=IIIC; ComponentLink3URL: https://datasheet.ciiva.com/16210/cd00161566-16210248.pdf?src-supplier=Future+Electronics; ComponentLink3Description: https://datasheet.ciiva.com/16210/cd00161566-16210248.pdf?src-supplier=Future+Electronics; ComponentLink4URL: https://datasheet.ciiva.com/14100/pustm-arm-microcont-stm32f103-en-14100508.pdf?src-supplier=Distrelec; ComponentLink4Description: https://datasheet.ciiva.com/14100/pustm-arm-microcont-stm32f103-en-14100508.pdf?src-supplier=Distrelec; ComponentLink5URL: https://datasheet.ciiva.com/8054/1730126-8054942.pdf?src-supplier=Element14; ComponentLink5Description: https://datasheet.ciiva.com/8054/1730126-8054942.pdf?src-supplier=Element14; ComponentLink6URL: https://datasheet.ciiva.com/48687/001075658-da-01-en-mcu-64kb-mem-stm32f103c8t6-lqfp-48-stm-48687589.pdf?src-supplier=Conrad; ComponentLink6Description: https://datasheet.ciiva.com/48687/001075658-da-01-en-mcu-64kb-mem-stm32f103c8t6-lqfp-48-stm-48687589.pdf?src-supplier=Conrad; Supplier Part Number 1: 497-6063-ND
footprint TSQFP50P900X900X160-48N (TSQFP, 48-Leads, Body 7/00x7/00mm, Pitch 0/50mm, IPC Medium Density)
pins: 1 VBAT (power), 2 PC13-TAMPER-RTC (io), 3 PC14-OSC32_IN (io), 4 PC15-OSC32_OUT (io), 5 PD0-OSC_IN (io), 6 PD1-OSC_OUT (io), 7 NRST (io), 8 VSSA (power), 9 VDDA (power), 10 PA0-WKUP (io), 11 PA1 (io), 12 PA2 (io), 13 PA3 (io), 14 PA4 (io), 15 PA5 (io), 16 PA6 (io), 17 PA7 (io), 18 PB0 (io), 19 PB1 (io), 20 PB2 (io), 21 PB10 (io), 22 PB11 (io), 23 VSS_1 (power), 24 VDD_1 (power), 25 PB12 (io), 26 PB13 (io), 27 PB14 (io), 28 PB15 (io), 29 PA8 (io), 30 PA9 (io), 31 PA10 (io), 32 PA11 (io), 33 PA12 (io), 34 PA13 (io), 35 VSS_2 (power), 36 VDD_2 (power), 37 PA14 (io), 38 PA15 (io), 39 PB3 (io), 40 PB4 (io), 41 PB5 (io), 42 PB6 (io), 43 PB7 (io), 44 BOOT0 (in), 45 PB8 (io), 46 PB9 (io), 47 VSS_3 (power), 48 VDD_3 (power)